# Altium schematic symbol library 0.6 - 电源_音频_USB Type-C_HDMI_XT60_5557_D-SUB_RJ45_SD-TF_SIM插座.SchLib: 57 symbols
Pins are listed as number, name and electrical type; pins without a type are passive.

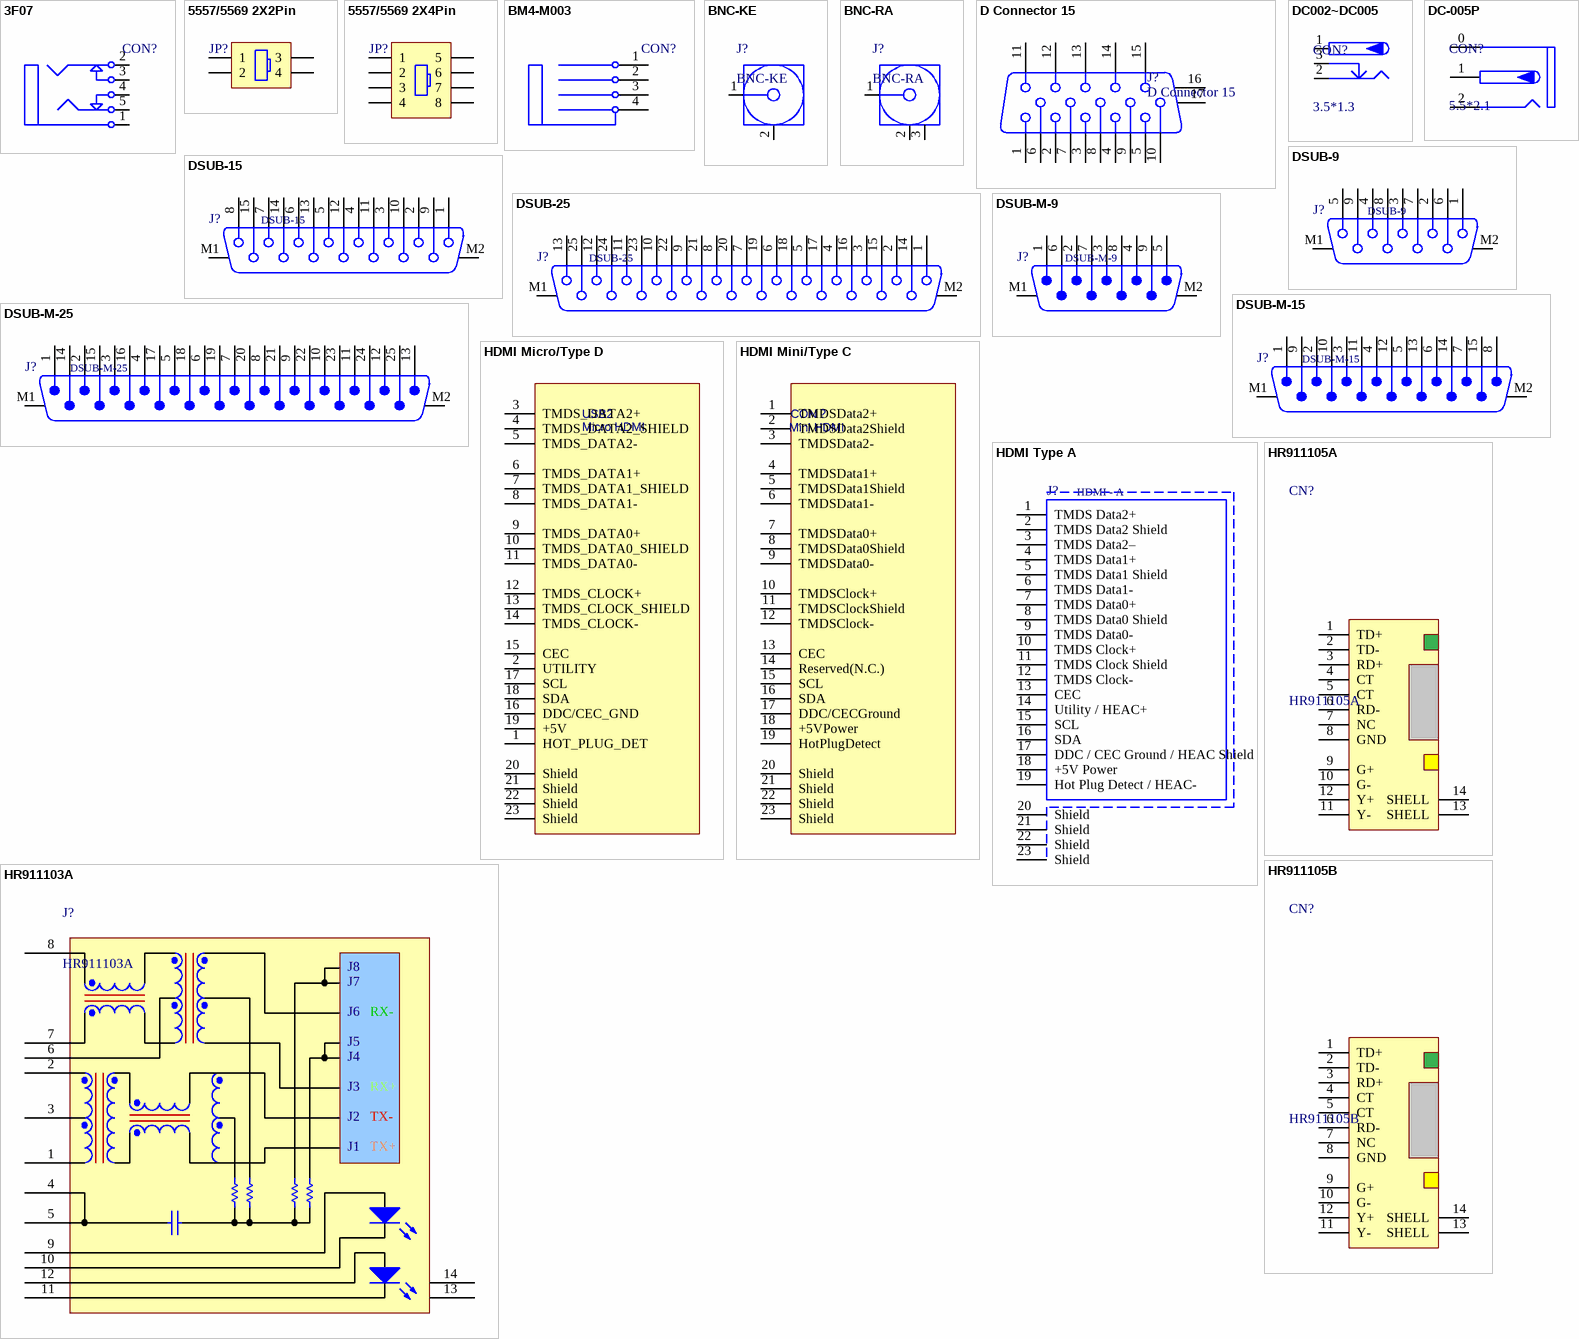
[diagram p0: symbols 3F07 to HR911105B]

## 3F07
designator CON?, comment 3F07_BK  (value not drawn)
3.5mm耳机插座; BOM名称: 耳机插座; 联系下单店铺卖家 免费技术支持: 联系下单店铺卖家 免费帮你查找封装
footprint 3F07_BK (黑色，14.2*12*5mm)
footprint 3F07_G (绿色，14.2*12*5mm)
footprint 3F07_PK (粉色，14.2*12*5mm)
pins: 1, 2, 3, 4, 5

## 5557/5569 2X2Pin
designator JP?, comment Header2X2  (value not drawn)
5557/5569 2*2P插座; BOM名称: 2*2P接插件; 联系下单店铺卖家 免费技术支持: 联系下单店铺卖家 免费帮你查找封装
footprint CON-TH_5569-2X2 (MX4.2mm立式)
footprint CON-TH_5569-2X2W (MX4.2mm卧式)
pins: 1, 2, 3, 4

## 5557/5569 2X4Pin
designator JP?, comment Header 2X4  (value not drawn)
5557/5569 2*4P插座; BOM名称: 4*2P接插件; 当前库版本V2022.12.25 @淘宝卖家:黄晶宝石: 最新版本发布https://shop463601444.taobao.com
footprint CON-TH_5569-2X4 (MX4.2mm立式)
footprint CON-TH_5569-2X4W (MX4.2mm卧式)
pins: 1, 2, 3, 5, 6, 7, 7 4, 8

## BM4-M003
designator CON?  (value not drawn)
宝马头板端弯头; 当前库版本V2022.12.25 @淘宝卖家:黄晶宝石: 最新版本发布https://shop463601444.taobao.com; BOM名称: 宝马头板端弯头
footprint BM4-M003-BK (宝马头板端弯头（黑色）)
footprint BM4-M003-R (宝马头板端弯头（红色）)
footprint BM4-M003-G (宝马头板端弯头（绿色）)
footprint BM4-M003-B (宝马头板端弯头（蓝色）)
footprint BM4-M003-Y (宝马头板端弯头（黄色）)
pins: 1, 2, 3, 4

## BNC-KE
designator J?
BNC接口; 当前库版本V2022.12.25 @淘宝卖家:黄晶宝石: 最新版本发布https://shop463601444.taobao.com
footprint BNC-KE
pins: 1 Signal "Signal Pin", 2 GND (power)

## BNC-RA
designator J?
BNC接口; 当前库版本V2022.12.25 @淘宝卖家:黄晶宝石: 最新版本发布https://shop463601444.taobao.com
footprint BNC-RA (Connector; BNC Elbow)
pins: 1 Signal "Signal Pin", 2 GND (power), 3 (power)

## D Connector 15
designator J?
VGA通讯端口; 当前库版本V2022.12.25 @淘宝卖家:黄晶宝石: 最新版本发布https://shop463601444.taobao.com; BOM名称: VGA通讯端口
footprint VGA15b (15针通讯接口)
footprint VGA15A (15针通讯接口)
pins: 1, 2, 3, 4, 5, 6, 7, 8, 9, 10, 11, 12, 13, 14, 15, 16 MH2, 17 MH1

## DC002~DC005
designator CON?, comment 3.5*1.3
低压DC电源接口; BOM名称: DC电源接口; 当前库版本V2022.12.25 @淘宝卖家:黄晶宝石: 最新版本发布https://shop463601444.taobao.com
footprint DC-012 (5.5*2.1)
footprint DC-005 (5.5*2.1mm，DC30V,2.5A)
footprint DC-002 (3.5*1.1mm,)
footprint DC-003 (3.5*1.1mm)
footprint DC-003A (3.5*1.1mm)
footprint DC-050 (5.5*2.1)
pins: 1 (power), 2 (power), 3 (power)

## DC-005P
designator CON?, comment 5.5*2.1
带屏蔽DC电源接口; 当前库版本V2022.12.25 @淘宝卖家:黄晶宝石: 最新版本发布https://shop463601444.taobao.com; BOM名称: 带屏蔽DC电源接口
footprint DC-005P (13mm*10mm*10mm(长*宽*高))
pins: 0 (power), 1 (power), 2 (power)

## DSUB-9
designator J?
DSUB-9Pin母座; 当前库版本V2022.12.25 @淘宝卖家:黄晶宝石: 最新版本发布https://shop463601444.taobao.com
footprint DB-9-H (9 pins, right angled, 8.08mm, with hex screw)
footprint DB-9-V (Female 09p Straight With board clip & Hex screw UNC 4-40)
pins: 1, 2, 3, 4, 5, 6, 7, 8, 9, M1, M2

## DSUB-15
designator J?
DSUB-15Pin母座; 当前库版本V2022.12.25 @淘宝卖家:黄晶宝石: 最新版本发布https://shop463601444.taobao.com
footprint DB-15-H (15 pins, right angled, 8.08mm, with hex screw)
footprint DB-15-V (15 pins, straight)
pins: 1, 2, 3, 4, 5, 6, 7, 8, 9, 10, 11, 12, 13, 14, 15, M1, M2

## DSUB-25
designator J?
DSUB-25Pin母座; 当前库版本V2022.12.25 @淘宝卖家:黄晶宝石: 最新版本发布https://shop463601444.taobao.com
footprint DB-25-H (25 pins, right angled, 8.08mm, with hex screw)
footprint DB-25-V (25 pins, straight)
pins: 1, 2, 3, 4, 5, 6, 7, 8, 9, 10, 11, 12, 13, 14, 15, 16, 17, 18, 19, 20, 21, 22, 23, 24, 25, M1, M2

## DSUB-M-9
designator J?
DSUB-9Pin公座; 当前库版本V2022.12.25 @淘宝卖家:黄晶宝石: 最新版本发布https://shop463601444.taobao.com
footprint DB-M-9-H (9 pins, right angled, 8.08mm, with hex screw)
footprint DB-M-9-V (Male 09p Straight With board clip & Hex screw)
pins: 1, 2, 3, 4, 5, 6, 7, 8, 9, M1, M2

## DSUB-M-15
designator J?
DSUB-15Pin公座; 当前库版本V2022.12.25 @淘宝卖家:黄晶宝石: 最新版本发布https://shop463601444.taobao.com
footprint DB-M-15-H (15 pins, right angled, 8.08mm, with hex screw)
footprint DB-M-15-V (Male 15p Straight With board clip & Hex screw)
pins: 1, 2, 3, 4, 5, 6, 7, 8, 9, 10, 11, 12, 13, 14, 15, M1, M2

## DSUB-M-25
designator J?
DSUB-25Pin公座; 当前库版本V2022.12.25 @淘宝卖家:黄晶宝石: 最新版本发布https://shop463601444.taobao.com
footprint DB-M-25-H (25 pins, right angled, 8.08mm, with hex screw)
footprint DB-M-25-V (Male 25p Straight With board clip & Hex screw)
pins: 1, 2, 3, 4, 5, 6, 7, 8, 9, 10, 11, 12, 13, 14, 15, 16, 17, 18, 19, 20, 21, 22, 23, 24, 25, M1, M2

## HDMI Micro/Type D
designator USB2, comment Micro HDMI
HDMI Micro/Type D全贴片母座; BOM名称: HDMI-101W; 当前库版本V2022.12.25 @淘宝卖家:黄晶宝石: 最新版本发布https://shop463601444.taobao.com
footprint HDMI Micro Type-D (0.4mm Pitch, Surface Mount Right Angle 19 Contacts Micro HDMI Type-D Receptacle With Kapton Tape  And SMT Mounting Pads)
footprint HDMI Micro Type-D-2 (Micro HDMI Horizontal SMT Hybrid Mount)
footprint HDMI Micro Type-D-3 (Micro HDMI Horizontal SMT)
pins: 1 HOT_PLUG_DET, 2 UTILITY, 3 TMDS_DATA2+, 4 TMDS_DATA2_SHIELD, 5 TMDS_DATA2-, 6 TMDS_DATA1+, 7 TMDS_DATA1_SHIELD, 8 TMDS_DATA1-, 9 TMDS_DATA0+, 10 TMDS_DATA0_SHIELD, 11 TMDS_DATA0-, 12 TMDS_CLOCK+, 13 TMDS_CLOCK_SHIELD, 14 TMDS_CLOCK-, 15 CEC, 16 DDC/CEC_GND, 17 SCL, 18 SDA, 19 +5V, 20 Shield, 21 Shield, 22 Shield, 23 Shield

## HDMI Mini/Type C
designator CON？, comment Mini HDMI
HDMI Mini/Type C母座; BOM名称: HDMI-201; 当前库版本V2022.12.25 @淘宝卖家:黄晶宝石: 最新版本发布https://shop463601444.taobao.com
footprint HDMI MINI-19pin-SMD (Mini HDMI SMT Horizontal)
footprint HDMI MINI-19pin-SMD-2 (HDMI-MINI-19pin JACK)
pins: 1 TMDSData2+, 2 TMDSData2Shield, 3 TMDSData2-, 4 TMDSData1+, 5 TMDSData1Shield, 6 TMDSData1-, 7 TMDSData0+, 8 TMDSData0Shield, 9 TMDSData0-, 10 TMDSClock+, 11 TMDSClockShield, 12 TMDSClock-, 13 CEC, 14 Reserved(N.C.), 15 SCL, 16 SDA, 17 DDC/CECGround, 18 +5VPower, 19 HotPlugDetect, 20 Shield, 21 Shield, 22 Shield, 23 Shield

## HDMI Type A
designator J?, comment HDMI - A
HDMI Type A Receptacle, Horizontal, SMT; 当前库版本V2022.12.25 @淘宝卖家:黄晶宝石: 最新版本发布https://shop463601444.taobao.com
footprint HDMI-Type-A (HDMI SMT Horizontal)
pins: 1 TMDS Data2+, 2 TMDS Data2 Shield, 3 TMDS Data2–, 4 TMDS Data1+, 5 TMDS Data1 Shield, 6 TMDS Data1-, 7 TMDS Data0+, 8 TMDS Data0 Shield, 9 TMDS Data0-, 10 TMDS Clock+, 11 TMDS Clock Shield, 12 TMDS Clock-, 13 CEC, 14 Utility / HEAC+, 15 SCL, 16 SDA, 17 DDC / CEC Ground / HEAC Shield, 18 +5V Power, 19 Hot Plug Detect / HEAC-, 20 Shield, 21 Shield, 22 Shield, 23 Shield

## HR911103A
designator J?
带灯以太网接口; 当前库版本V2022.12.25 @淘宝卖家:黄晶宝石: 最新版本发布https://shop463601444.taobao.com
footprint RJ8-HR911103A (网线接口)
pins: 1 TD+, 2 TD-, 3 TD-, 4 TD-, 5 GND, 6 GND, 7 RD+, 8 RD-, 9 GLED+, 10 GLED-, 11 YLED-, 12 YLED+, 13, 14
text: J8; J7; J6; RX-; J5; J4; J3; RX+; J2; TX-; J1; TX+

## HR911105A
designator CN?
带灯以太网接口; 当前库版本V2022.12.25 @淘宝卖家:黄晶宝石: 最新版本发布https://shop463601444.taobao.com
footprint RJ8-HR911105A (联系卖家免费查找封装)
pins: 1 TD+, 2 TD-, 3 RD+, 4 CT, 5 CT, 6 RD-, 7 NC, 8 GND, 9 G+, 10 G-, 11 Y-, 12 Y+, 13 SHELL, 14 SHELL

## HR911105B
designator CN?
以太网接口; 当前库版本V2022.12.25 @淘宝卖家:黄晶宝石: 最新版本发布https://shop463601444.taobao.com
footprint RJ8-HR911105B
pins: 1 TD+, 2 TD-, 3 RD+, 4 CT, 5 CT, 6 RD-, 7 NC, 8 GND, 9 G+, 10 G-, 11 Y-, 12 Y+, 13 SHELL, 14 SHELL

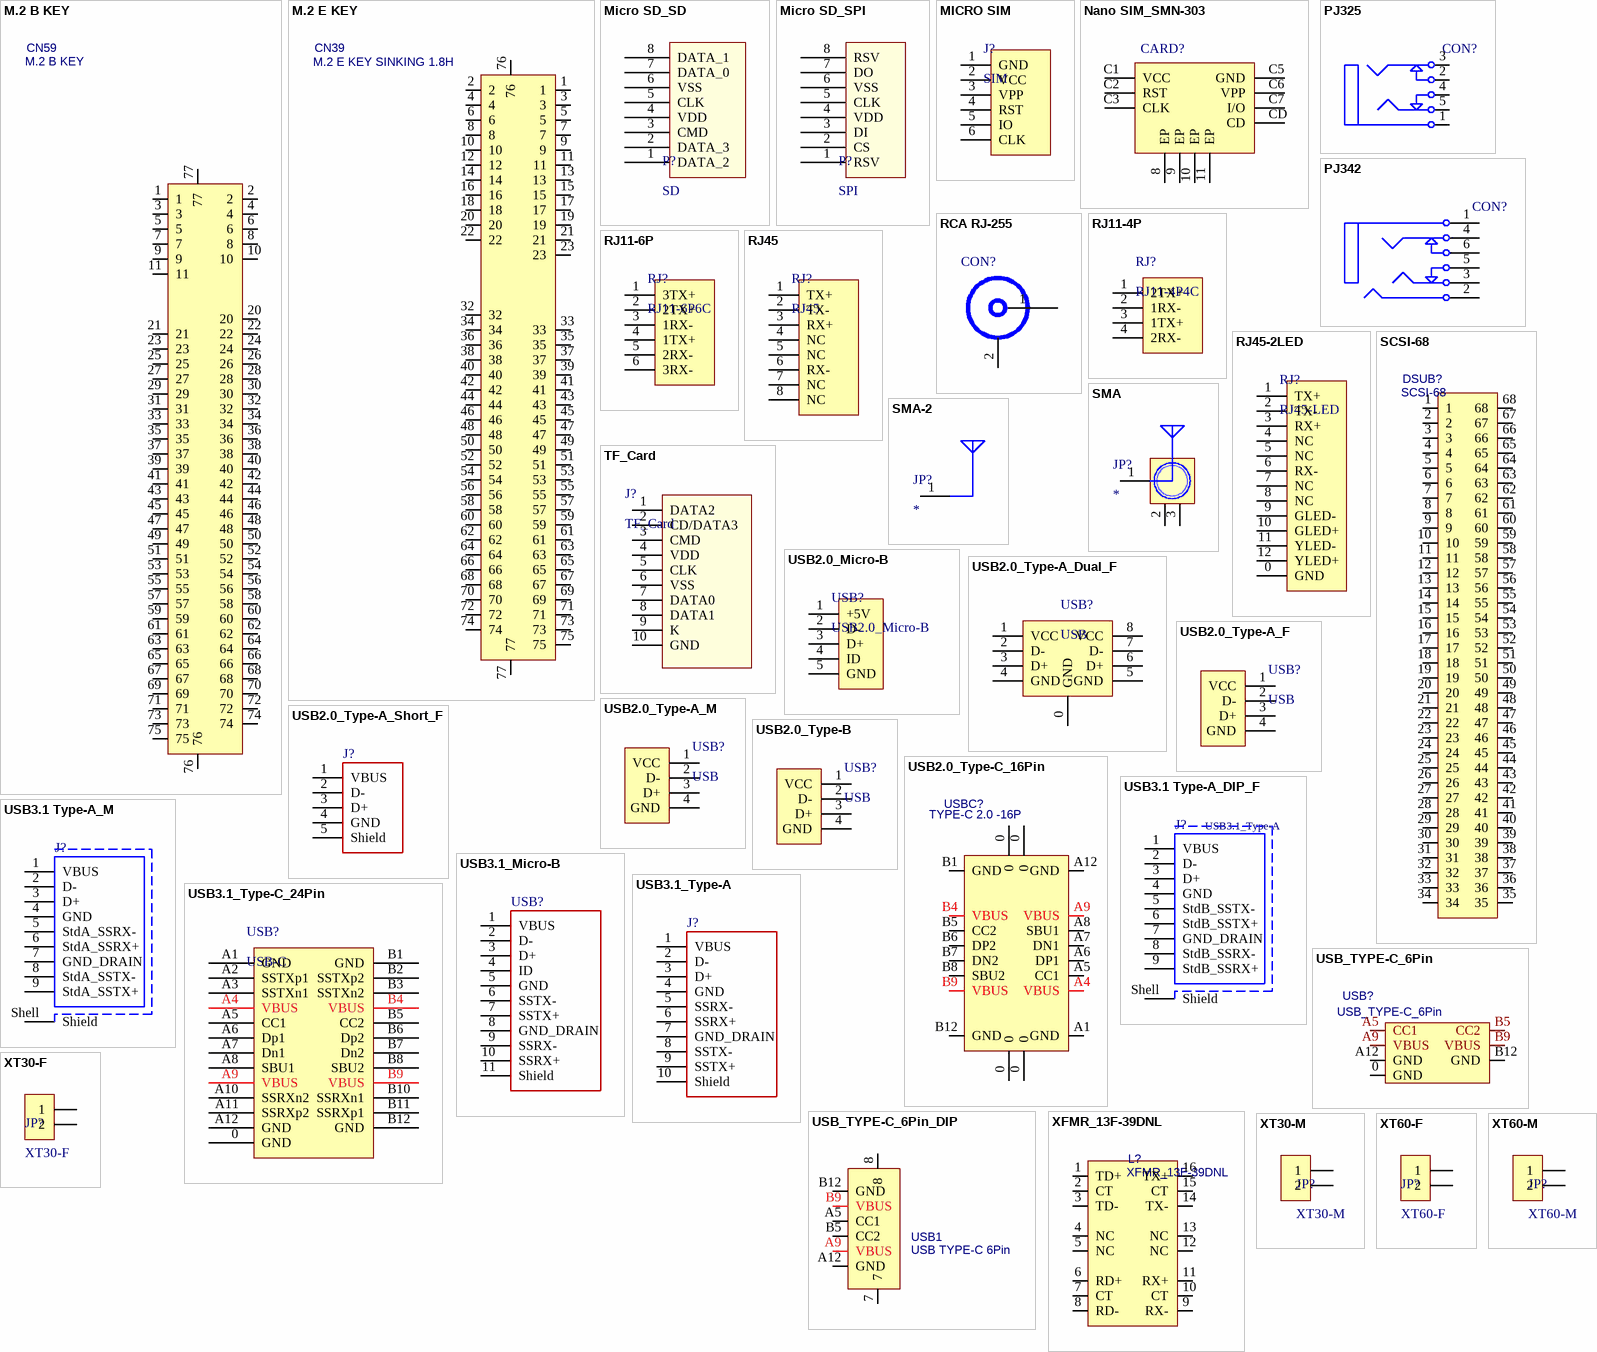
[diagram p1: symbols M.2 B KEY to XT60-M]

## M.2 B KEY
designator CN59
M.2 B KEY NGFF插座; 当前库版本V2022.12.25 @淘宝卖家:黄晶宝石: 最新版本发布https://shop463601444.taobao.com
footprint M.2 B KEY 3.0H (封装库来自淘宝ID:黄晶宝石)
pins: 1, 2, 3, 4, 5, 6, 7, 8, 9, 10, 11, 20, 21, 22, 23, 24, 25, 26, 27, 28, 29, 30, 31, 32, 33, 34, 35, 36, 37, 38, 39, 40, 41, 42, 43, 44, 45, 46, 47, 48, 49, 50, 51, 52, 53, 54, 55, 56, 57, 58, 59, 60, 61, 62, 63, 64, 65, 66, 67, 68, 69, 70, 71, 72, 73, 74, 75, 76, 77

## M.2 E KEY
designator CN39, comment M.2 E KEY SINKING 1.8H
M.2 E KEY沉板式插座; 当前库版本V2022.12.25 @淘宝卖家:黄晶宝石: 最新版本发布https://shop463601444.taobao.com
footprint M.2 E KEY SINKING 1.8H
pins: 1, 2, 3, 4, 5, 6, 7, 8, 9, 10, 11, 12, 13, 14, 15, 16, 17, 18, 19, 20, 21, 22, 23, 32, 33, 34, 35, 36, 37, 38, 39, 40, 41, 42, 43, 44, 45, 46, 47, 48, 49, 50, 51, 52, 53, 54, 55, 56, 57, 58, 59, 60, 61, 62, 63, 64, 65, 66, 67, 68, 69, 70, 71, 72, 73, 74, 75, 76, 77

## Micro SD_SD
designator P?, comment SD
自弹式TF卡座; 当前库版本V2022.12.25 @淘宝卖家:黄晶宝石: 最新版本发布https://shop463601444.taobao.com
footprint MICRO SD
pins: 1 DATA_2, 2 DATA_3, 3 CMD, 4 VDD, 5 CLK, 6 VSS, 7 DATA_0, 8 DATA_1

## Micro SD_SPI
designator P?, comment SPI
SPI协议_自弹式TF卡座; 当前库版本V2022.12.25 @淘宝卖家:黄晶宝石: 最新版本发布https://shop463601444.taobao.com
footprint MICRO SD
pins: 1 RSV, 2 CS, 3 DI, 4 VDD, 5 CLK, 6 VSS, 7 DO, 8 RSV

## MICRO SIM
designator J?, comment SIM
SIM卡座; 当前库版本V2022.12.25 @淘宝卖家:黄晶宝石: 最新版本发布https://shop463601444.taobao.com; BOM名称: SIM卡座
footprint MICRO SIM (16.30mm*14.66mm*1.8mm(长*宽*厚）)
pins: 1 GND, 2 VCC, 3 VPP, 4 RST, 5 IO, 6 CLK

## Nano SIM_SMN-303
designator CARD?  (value not drawn)
NanoSIM卡 自弹式卡座  6+1Pin 带CD; 当前库版本V2022.12.25 @淘宝卖家:黄晶宝石: 最新版本发布https://shop463601444.taobao.com
footprint SIM-SMD_SMN-303
pins: 8 EP, 9 EP, 10 EP, 11 EP, C1 VCC, C2 RST, C3 CLK, C5 GND, C6 VPP, C7 I/O, CD

## PJ325
designator CON?, comment PJ325_BK  (value not drawn)
3.5mm耳机插座; BOM名称: 耳机插座; 当前库版本V2022.12.25 @淘宝卖家:黄晶宝石: 最新版本发布https://shop463601444.taobao.com
footprint PJ325_BK (黑色，18*8.1*12.3mm)
footprint PJ325_YE (黄色，18*8.1*12.3mm)
footprint PJ325_G (绿色，18*8.1*12.3mm)
footprint PJ325_B (蓝色，18*8.1*12.3mm)
footprint PJ325_PK (粉色，18*8.1*12.3mm)
pins: 1, 2, 3, 4, 5

## PJ342
designator CON?  (value not drawn)
3.5耳机插座,4Pin; BOM名称: 耳机插座; 当前库版本V2022.12.25 @淘宝卖家:黄晶宝石: 最新版本发布https://shop463601444.taobao.com
footprint PJ342A (有头)
footprint PJ342B (沉板式，无头)
pins: 1, 2, 3, 4, 5, 6

## RCA RJ-255
designator CON?  (value not drawn)
RCA莲花头AV座; 当前库版本V2022.12.25 @淘宝卖家:黄晶宝石: 最新版本发布https://shop463601444.taobao.com; BOM名称: RCA莲花头AV座
footprint RCA RJ-255 (RCA莲花头AV接口座)
pins: 1, 2

## RJ11-4P
designator RJ?, comment RJ11-4P4C
电话接口; 当前库版本V2022.12.25 @淘宝卖家:黄晶宝石: 最新版本发布https://shop463601444.taobao.com; BOM名称: 电话接口
footprint RJ11-4P4C-LI-BK (16.5mm*13.8mm*16.38mm(长*宽*高))
footprint RJ11-4P4C-LI-GY (16.5mm*13.8mm*16.38mm(长*宽*高))
pins: 1 2TX+, 2 1RX-, 3 1TX+, 4 2RX-

## RJ11-6P
designator RJ?, comment RJ11-6P6C
电话接口; 当前库版本V2022.12.25 @淘宝卖家:黄晶宝石: 最新版本发布https://shop463601444.taobao.com; BOM名称: 电话接口
footprint RJ11-6P6C-GY (Footprint not found)
footprint RJ11-6P6C-BK (15mm*12mm*14.55mm(长*宽*高))
pins: 1 3TX+, 2 2TX+, 3 1RX-, 4 1TX+, 5 2RX-, 6 3RX-

## RJ45
designator RJ?
以太网接口; 当前库版本V2022.12.25 @淘宝卖家:黄晶宝石: 最新版本发布https://shop463601444.taobao.com; BOM名称: 以太网接口
footprint RJ45-2 (网线接口)
footprint RJ45_180 (网线接口)
pins: 1 TX+, 2 TX-, 3 RX+, 4 NC, 5 NC, 6 RX-, 7 NC, 8 NC

## RJ45-2LED
designator RJ?, comment RJ45-LED
带灯以太网接口; 当前库版本V2022.12.25 @淘宝卖家:黄晶宝石: 最新版本发布https://shop463601444.taobao.com; BOM名称: 带灯以太网接口
footprint RJ45-2LED (RJ45屏蔽网络插座带LED)
pins: 0 GND, 1 TX+, 2 TX-, 3 RX+, 4 NC, 5 NC, 6 RX-, 7 NC, 8 NC, 9 GLED-, 10 GLED+, 11 YLED-, 12 YLED+

## SCSI-68
designator DSUB?
SCSI-68P连接器; 当前库版本V2022.12.25 @淘宝卖家:黄晶宝石: 最新版本发布https://shop463601444.taobao.com
footprint SCSI_68P_TH
pins: 1, 2, 3, 4, 5, 6, 7, 8, 9, 10, 11, 12, 13, 14, 15, 16, 17, 18, 19, 20, 21, 22, 23, 24, 25, 26, 27, 28, 29, 30, 31, 32, 33, 34, 35, 36, 37, 38, 39, 40, 41, 42, 43, 44, 45, 46, 47, 48, 49, 50, 51, 52, 53, 54, 55, 56, 57, 58, 59, 60, 61, 62, 63, 64, 65, 66, 67, 68

## SMA
designator JP?
SMA-2.4G射频天线接口; 当前库版本V2022.12.25 @淘宝卖家:黄晶宝石: 最新版本发布https://shop463601444.taobao.com; BOM名称: SMA-2.4G射频天线接口
footprint SMA_FR
pins: 1 ANT, 2 GND, 3 GND

## SMA-2
designator JP?
SMA-板载2.4G射频天线; 当前库版本V2022.12.25 @淘宝卖家:黄晶宝石: 最新版本发布https://shop463601444.taobao.com; BOM名称: 板载2.4G射频天线
footprint 2.4GANTS9
footprint WIFI-ANT
footprint 2.4GANTF0
footprint 2.4GANTF1
footprint 2.4GANTF2
footprint 2.4GANTF3
footprint 2.4GANTF4
footprint 2.4GANTS0
footprint 2.4GANTS8
footprint 2.4GANTS9
pins: 1 ANT

## TF_Card
designator J?
TF卡座; 当前库版本V2022.12.25 @淘宝卖家:黄晶宝石: 最新版本发布https://shop463601444.taobao.com; BOM名称: TF卡座
footprint Micro SD
pins: 1 DATA2, 2 CD/DATA3, 3 CMD, 4 VDD, 5 CLK, 6 VSS, 7 DATA0, 8 DATA1, 9 K, 10 GND

## USB2.0_Micro-B
designator USB?
USB2.0_Micro-B母座; 当前库版本V2022.12.25 @淘宝卖家:黄晶宝石: 最新版本发布https://shop463601444.taobao.com; BOM名称: USB2.0_Micro-B母座
footprint USB2.0_MICRO-B_1 (micro型USB ，5.7*7.8*2.5mm)
footprint USB2.0_MICRO-B_2 (micro型USB ，5.9*8.2*2.5mm)
footprint USB2.0_MICRO-B_3 (micro型USB ，5.7*7.8*2.5mm)
footprint USB2.0_MICRO-B_4 (micro型USB ，5.7*7.5*2.5mm)
footprint USB2.0_MICRO-B_5 (micro型USB ，6.7*7.5*2.5mm)
footprint USB2.0_MICRO-B_6 (micro型USB ，5.9*8.2*2.5mm)
pins: 1 +5V, 2 D-, 3 D+, 4 ID, 5 GND

## USB2.0_Type-A_Dual_F
designator USB?, comment USB
USB2.0_Type-A双层母座; 当前库版本V2022.12.25 @淘宝卖家:黄晶宝石: 最新版本发布https://shop463601444.taobao.com; BOM名称: USB2.0_Type-A双层母座
footprint USB2.0_Type-A_Dual_F_17 (双层USB母座高16.7mm)
footprint USB2.0_Type-A_Dual_F_14 (双层USB母座高14.2mm)
pins: 0 GND, 1 VCC, 2 D-, 3 D+, 4 GND, 5 GND, 6 D+, 7 D-, 8 VCC

## USB2.0_Type-A_F
designator USB?, comment USB
USB2.0_Type-A母座; 当前库版本V2022.12.25 @淘宝卖家:黄晶宝石: 最新版本发布https://shop463601444.taobao.com; BOM名称: USB2.0_Type-A母座
footprint USB2.0_Type-A_DIP_F_1 (USB2.0_Type-A直插母座)
footprint USB2.0_Type-A_DIP_F_2 (USB2.0_Type-A直插母座)
footprint USB2.0_Type-A_DIP_F_3 (USB2.0_Type-A直插立式母座)
footprint USB2.0_Type-A_DIP_F_4 (USB2.0_Type-A侧插短体无卷边 90度母座)
footprint USB2.0_Type-A_SMD_F_1 (USB2.0_Type-A贴片母座)
footprint USB2.0_Type-A_SMD_F_2 (USB2.0_Type-A贴片母座，无卷边)
pins: 1 VCC, 2 D-, 3 D+, 4 GND

## USB2.0_Type-A_M
designator USB?, comment USB
USB2.0_Type-A公头; BOM名称: USB-A型公公头; 当前库版本V2022.12.25 @淘宝卖家:黄晶宝石: 最新版本发布https://shop463601444.taobao.com
footprint USB2.0_Type-A_DIP_M (USB2.0_Type-A直插公头，20*13*4.5mm)
footprint USB2.0_Type-A_SMD_M (USB2.0_Type-A贴片公头，20*13*4.5mm)
pins: 1 VCC, 2 D-, 3 D+, 4 GND

## USB2.0_Type-A_Short_F
designator J?
USB2.0_Type-A短体母座; 当前库版本V2022.12.25 @淘宝卖家:黄晶宝石: 最新版本发布https://shop463601444.taobao.com
footprint USB2.0_Type-A_SMD_F (USB 2.0 Type A                    封装库来自淘宝ID:黄晶宝石)
pins: 1 VBUS, 2 D-, 3 D+, 4 GND, 5 Shield

## USB2.0_Type-B
designator USB?, comment USB
USB2.0_Type-B母座; 当前库版本V2022.12.25 @淘宝卖家:黄晶宝石: 最新版本发布https://shop463601444.taobao.com; BOM名称: USB2.0_Type-B母座
footprint USB2.0_TYPE-B (b型USB 母座 16.3*13.7*11mm封装库来自淘宝ID:黄晶宝石)
pins: 1 VCC, 2 D-, 3 D+, 4 GND

## USB2.0_Type-C_16Pin
designator USBC?, comment TYPE-C 2.0 -16P
USB2.0_Type-C_16Pin母座; 当前库版本V2022.12.25 @淘宝卖家:黄晶宝石: 最新版本发布https://shop463601444.taobao.com
footprint USB-C-SMD_16P (封装库来自淘宝ID:黄晶宝石)
pins: 0, 0, 0, 0, A1 GND, A4 VBUS, A5 CC1, A6 DP1, A7 DN1, A8 SBU1, A9 VBUS, A12 GND, B1 GND, B4 VBUS, B5 CC2, B6 DP2, B7 DN2, B8 SBU2, B9 VBUS, B12 GND

## USB3.1 Type-A_DIP_F
designator J?, comment USB3.1_Type-A
USB3.1_Type-A直插母座; 当前库版本V2022.12.25 @淘宝卖家:黄晶宝石: 最新版本发布https://shop463601444.taobao.com
footprint USB3.1 Type-A_DIP_F (USB3.1 Type A Horizontal)
pins: 1 VBUS, 2 D-, 3 D+, 4 GND, 5 StdB_SSTX-, 6 StdB_SSTX+, 7 GND_DRAIN, 8 StdB_SSRX-, 9 StdB_SSRX+, Shell Shield

## USB3.1 Type-A_M
designator J?
USB 3.0 Type A 贴片公头; 当前库版本V2022.12.25 @淘宝卖家:黄晶宝石: 最新版本发布https://shop463601444.taobao.com
footprint USB3.1 Type-A_DIP_M (USB 3.0 Type A SMT Plug with Clip)
pins: 1 VBUS, 2 D-, 3 D+, 4 GND, 5 StdA_SSRX-, 6 StdA_SSRX+, 7 GND_DRAIN, 8 StdA_SSTX-, 9 StdA_SSTX+, Shell Shield

## USB3.1_Micro-B
designator USB?
USB3.1_Micro-B母座; 当前库版本V2022.12.25 @淘宝卖家:黄晶宝石: 最新版本发布https://shop463601444.taobao.com
footprint USB3.1_Micro-B_LT (Micro USB 3.1 Type B LT       封装库来自淘宝ID:黄晶宝石)
pins: 1 VBUS, 2 D-, 3 D+, 4 ID, 5 GND, 6 SSTX-, 7 SSTX+, 8 GND_DRAIN, 9 SSRX-, 10 SSRX+, 11 Shield

## USB3.1_Type-A
designator J?
USB3.1_Type-A贴片母座; 当前库版本V2022.12.25 @淘宝卖家:黄晶宝石: 最新版本发布https://shop463601444.taobao.com
footprint USB3.1_Type-A_HS (USB 3.1 Type A                     封装库来自淘宝ID:黄晶宝石)
pins: 1 VBUS, 2 D-, 3 D+, 4 GND, 5 SSRX-, 6 SSRX+, 7 GND_DRAIN, 8 SSTX-, 9 SSTX+, 10 Shield

## USB3.1_Type-C_24Pin
designator USB?, comment USB-C
USB3.1 Type-C_24Pin母座; BOM名称: USB-C型母接口; 当前库版本V2022.12.25 @淘宝卖家:黄晶宝石: 最新版本发布https://shop463601444.taobao.com
footprint USB-C-SMD_24P
pins: 0 GND, A1 GND, A2 SSTXp1, A3 SSTXn1, A4 VBUS, A5 CC1, A6 Dp1, A7 Dn1, A8 SBU1, A9 VBUS, A10 SSRXn2, A11 SSRXp2, A12 GND, B1 GND, B2 SSTXp2, B3 SSTXn2, B4 VBUS, B5 CC2, B6 Dp2, B7 Dn2, B8 SBU2, B9 VBUS, B10 SSRXn1, B11 SSRXp1, B12 GND

## USB_TYPE-C_6Pin
designator USB?
USB_TYPE-C_6Pin母座; 当前库版本V2022.12.25 @淘宝卖家:黄晶宝石: 最新版本发布https://shop463601444.taobao.com
footprint USB-C-SMD_6P (封装库来自淘宝ID:黄晶宝石)
pins: 0 GND, A5 CC1, A9 VBUS, A12 GND, B5 CC2, B9 VBUS, B12 GND

## USB_TYPE-C_6Pin_DIP
designator USB1, comment USB TYPE-C 6Pin
USB_TYPE-C_6Pin立式母座; 当前库版本V2022.12.25 @淘宝卖家:黄晶宝石: 最新版本发布https://shop463601444.taobao.com
footprint USB-C-SMD-6P_DIP_F (封装库来自淘宝ID:黄晶宝石)
pins: 7, 8, A5 CC1, A9 VBUS, A12 GND, B5 CC2, B9 VBUS, B12 GND

## XFMR_13F-39DNL
designator L?
10/100M超薄网络变压器; 当前库版本V2022.12.25 @淘宝卖家:黄晶宝石: 最新版本发布https://shop463601444.taobao.com
footprint XFMR-SMD_13F-39DNL
pins: 1 TD+, 2 CT, 3 TD-, 4 NC, 5 NC, 6 RD+, 7 CT, 8 RD-, 9 RX-, 10 CT, 11 RX+, 12 NC, 13 NC, 14 TX-, 15 CT, 16 TX+

## XT30-F
designator JP?
XT30母座; 当前库版本V2022.12.25 @淘宝卖家:黄晶宝石: 最新版本发布https://shop463601444.taobao.com
footprint XT30PB-F (TH, 2-Leads, Body 10.2x5.2mm, Pitch 5.00mm)
footprint XT30PW-F (TH, 4-Leads, Body 14.9x13.3mm)
pins: 1, 2

## XT30-M
designator JP?
XT30公头; 当前库版本V2022.12.25 @淘宝卖家:黄晶宝石: 最新版本发布https://shop463601444.taobao.com
footprint XT30-M
footprint XT30PB-M (TH, 2-Leads, Body 10.2x5.2mm, Pitch 5.00mm)
footprint XT30PW-M (TH, 4-Leads, Body 13.95x13.3mm)
pins: 1, 2

## XT60-F
designator JP?
XT60母座; 当前库版本V2022.12.25 @淘宝卖家:黄晶宝石: 最新版本发布https://shop463601444.taobao.com
footprint XT60-F (长：16mm，宽：8.2mm，高：16mm     淘宝ID:黄晶宝石)
footprint XT60PB-F (TH, 2-Leads, Body 15.3x7.9mm, Pitch 7.2mm)
footprint XT60PW-F (长：18.8mm， 宽：16mm，高：8.6mm)
pins: 1, 2

## XT60-M
designator JP?
XT60公头; 当前库版本V2022.12.25 @淘宝卖家:黄晶宝石: 最新版本发布https://shop463601444.taobao.com
footprint XT60-M (长：16mm，宽：8.2mm，高：16mm)
footprint XT60PB-F (TH, 2-Leads, Body 15.3x7.9mm, Pitch 7.2mm)
footprint XT60PW-F (长：18.8mm， 宽：16mm，高：8.6mm)
pins: 1, 2